# EAGLE library part MICRO (library micro)
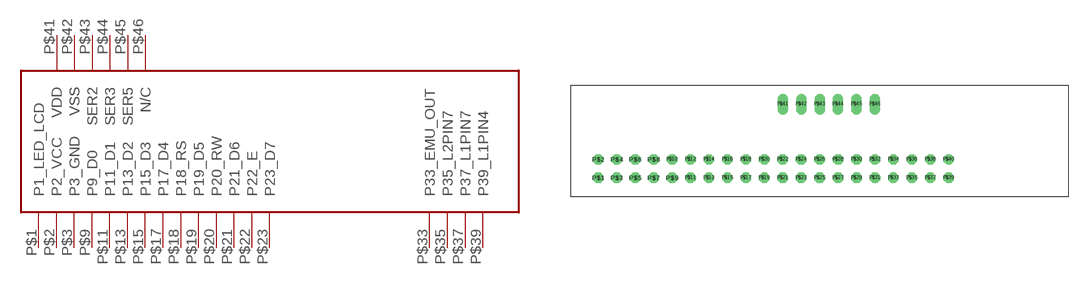
[diagram p0: symbol with the pads of MICRO; footprint MICRO]

Designator prefix IC

## MICRO  [MICRO]
P$1  P1_LED_LCD
P$2  P2_VCC
P$3  P3_GND
P$9  P9_D0
P$11  P11_D1
P$13  P13_D2
P$15  P15_D3
P$17  P17_D4
P$18  P18_RS
P$19  P19_D5
P$20  P20_RW
P$21  P21_D6
P$22  P22_E
P$23  P23_D7
P$33  P33_EMU_OUT
P$35  P35_L2PIN7
P$37  P37_L1PIN7
P$39  P39_L1PIN4
P$41  VDD  pwr
P$42  VSS  pwr
P$43  SER2
P$44  SER3
P$45  SER5
P$46  N/C

## Footprint MICRO (pad centres in mm)
drill 0.914 octagon: P$1 -30.48,-5.08; P$2 -30.48,-2.54; P$3 -27.94,-5.08; P$4 -27.94,-2.54; P$5 -25.4,-5.08; P$6 -25.4,-2.54; P$7 -22.86,-5.08; P$8 -22.86,-2.54; P$9 -20.32,-5.08; P$10 -20.32,-2.54; P$11 -17.78,-5.08; P$12 -17.78,-2.54; P$13 -15.24,-5.08; P$14 -15.24,-2.54; P$15 -12.7,-5.08; P$16 -12.7,-2.54; P$17 -10.16,-5.08; P$18 -10.16,-2.54; P$19 -7.62,-5.08; P$20 -7.62,-2.54; P$21 -5.08,-5.08; P$22 -5.08,-2.54; P$23 -2.54,-5.08; P$24 -2.54,-2.54; P$25 0,-5.08; P$26 0,-2.54; P$27 2.54,-5.08; P$28 2.54,-2.54; P$29 5.08,-5.08; P$30 5.08,-2.54; P$31 7.62,-5.08; P$32 7.62,-2.54; P$33 10.16,-5.08; P$34 10.16,-2.54; P$35 12.7,-5.08; P$36 12.7,-2.54; P$37 15.24,-5.08; P$38 15.24,-2.54; P$39 17.78,-5.08; P$40 17.78,-2.54
drill 0.914 long: P$41 -5.08,5.08; P$42 -2.54,5.08; P$43 0,5.08; P$44 2.54,5.08; P$45 5.08,5.08; P$46 7.62,5.08